# EAGLE library part STM32F401_BLACK_PILL (library stm32f401_black_pill)
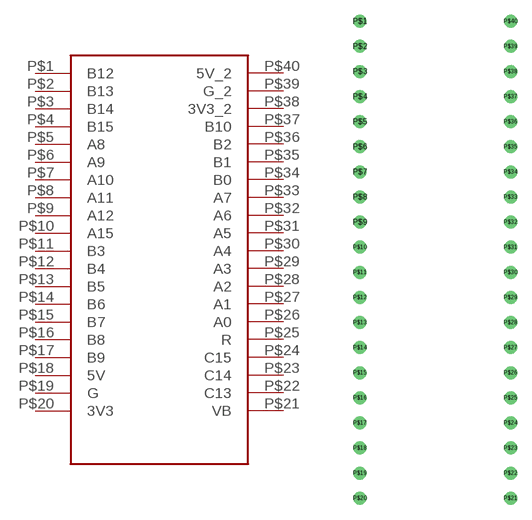
[diagram p0: symbol with the pads of STM32F401_BLACK_PILL; footprint STM32F401_BLACK_PILL]

Designator prefix -

## STM32F401_BLACK_PILL  [STM32F401_BLACK_PILL]
P$1  B12
P$2  B13
P$3  B14
P$4  B15
P$5  A8
P$6  A9
P$7  A10
P$8  A11
P$9  A12
P$10  A15
P$11  B3
P$12  B4
P$13  B5
P$14  B6
P$15  B7
P$16  B8
P$17  B9
P$18  5V
P$19  G
P$20  3V3
P$21  VB
P$22  C13
P$23  C14
P$24  C15
P$25  R
P$26  A0
P$27  A1
P$28  A2
P$29  A3
P$30  A4
P$31  A5
P$32  A6
P$33  A7
P$34  B0
P$35  B1
P$36  B2
P$37  B10
P$38  3V3_2
P$39  G_2
P$40  5V_2

## Footprint STM32F401_BLACK_PILL (pad centres in mm)
drill 0.8: P$1 -7.62,24.13; P$2 -7.62,21.59; P$3 -7.62,19.05; P$4 -7.62,16.51; P$5 -7.62,13.97; P$6 -7.62,11.43; P$7 -7.62,8.89; P$8 -7.62,6.35; P$9 -7.62,3.81; P$10 -7.62,1.27; P$11 -7.62,-1.27; P$12 -7.62,-3.81; P$13 -7.62,-6.35; P$14 -7.62,-8.89; P$15 -7.62,-11.43; P$16 -7.62,-13.97; P$17 -7.62,-16.51; P$18 -7.62,-19.05; P$19 -7.62,-21.59; P$20 -7.62,-24.13; P$21 7.62,-24.13; P$22 7.62,-21.59; P$23 7.62,-19.05; P$24 7.62,-16.51; P$25 7.62,-13.97; P$26 7.62,-11.43; P$27 7.62,-8.89; P$28 7.62,-6.35; P$29 7.62,-3.81; P$30 7.62,-1.27; P$31 7.62,1.27; P$32 7.62,3.81; P$33 7.62,6.35; P$34 7.62,8.89; P$35 7.62,11.43; P$36 7.62,13.97; P$37 7.62,16.51; P$38 7.62,19.05; P$39 7.62,21.59; P$40 7.62,24.13